# Altium footprint library PCB1.PcbLib: 1 footprints
Each footprint in its own frame and in the unit in brackets; x right, y up, seen from the top. Pads: shape width x height; smd on the part's side, far side on the other; paste and mask are expansions set on the pad; w line width, h text height; cw(c..) or ccw(c..) is an arc to the next point about the centre after c.
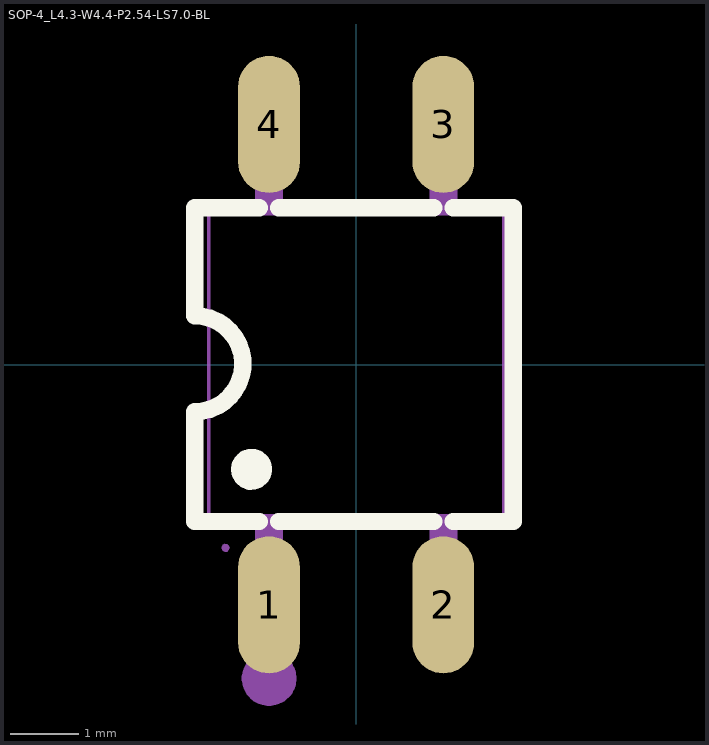
[diagram p0: the footprint, top view; thin cyan lines are the x and y axes]

## SOP-4_L4.3-W4.4-P2.54-LS7.0-BL [mil]
pads (4):
  oval 35.4x78.7 smd: 1(-50,-137.8) 2(50,-137.8) 3(50,137.8) 4(-50,137.8)
Top Overlay:
  lines w10: -92.5,-90 -92.5,-27 -88,-26.6 -83.6,-25.5 -79.4,-23.7 -75.6,-21.2 -72.3,-18.1 -69.5,-14.5 -67.3,-10.5 -65.8,-6.2 -65.1,-1.8 -65.1,2.8 -65.8,7.3 -67.3,11.6 -69.5,15.5 -72.3,19.1 -75.6,22.2 -79.4,24.7 -83.6,26.5 -88,27.6 -92.5,28 -92.5,90 -55.6,90 ; -91.7,-90 -55.6,-90 ; -44.4,-90 44.4,-90 ; -44.3,90 44.4,90 ; 55.6,-90 90,-90 90,90 55.7,90
  lines w11.8: -65.9,-60.1 -65.5,-62.1 -64.5,-63.9 -62.9,-65.2 -61,-65.9 -58.9,-65.8 -57,-65.1 -55.4,-63.8 -54.4,-62 -54.1,-60 -54.4,-58 -55.4,-56.2 -57,-54.9 -58.9,-54.2 -61,-54.2 -62.9,-54.9 -64.5,-56.2 -65.5,-58 -65.9,-60
Mechanical 6:
  lines w15.7: -57.8,-180 -57.5,-177.6 -56.3,-175.4 -54.6,-173.7 -52.4,-172.5 -50,-172.2 -47.5,-172.5 -45.4,-173.7 -43.6,-175.4 -42.5,-177.6 -42.1,-180 -42.5,-182.5 -43.6,-184.7 -45.4,-186.4 -47.5,-187.5 -50,-187.9 -52.4,-187.5 -54.6,-186.4 -56.3,-184.7 -57.5,-182.5 -57.8,-180
Mechanical 7:
  lines w2: -84.6,-86.6 -84.6,86.6 84.7,86.6 84.7,-86.6 -84.6,-86.6
Mechanical 8:
  region: -72.6,-105 -73,-106.3 -74,-107.2 -75.3,-107.4 -76.5,-106.8 -77.2,-105.7 -77.2,-104.4 -76.5,-103.2 -75.3,-102.7 -74,-102.9 -73,-103.8
Mechanical 9:
  region: 42.1,118.1 42.1,137.8 57.9,137.8 57.9,118.1
  region: -57.9,118.1 -57.9,137.8 -42.1,137.8 -42.1,118.1
  region: 42.1,-137.8 42.1,-118.1 57.9,-118.1 57.9,-137.8
  region: -57.9,-137.8 -57.9,-118.1 -42.1,-118.1 -42.1,-137.8
Mechanical 10:
  region: 42.1,86.2 42.1,118.5 57.9,118.5 57.9,86.2
  region: -57.9,86.2 -57.9,118.5 -42.1,118.5 -42.1,86.2
  region: 42.1,-118.5 42.1,-86.3 57.9,-86.3 57.9,-118.5
  region: -57.9,-118.5 -57.9,-86.3 -42.1,-86.3 -42.1,-118.5